# EAGLE library part LT5560_MIXER (library Tristan_Robitaille's_Library)
LT5560 0.01MHz to 4GHz Low Power Active Mixer Technical Specifications: Supply voltage range: 2.7V to 5V Noise: 9.3dB @ 900MHz output Conversion gain: 2.4dB Supply current: 4mA to 13.4mA (adjustable) Up/down conversion Operating temperature range: –40°C to 85°C Datasheet <http://cds.linear.com/docs/en/datasheet/5560f.pdf> Digi-Key part #: LT5560EDD#PBF-ND <http://www.digikey.com/product-detail/en/linear-technology/LT5560EDD-PBF/LT5560EDD-PBF-ND/1620364> Manufacturer part #: LT5560EDD#PBF
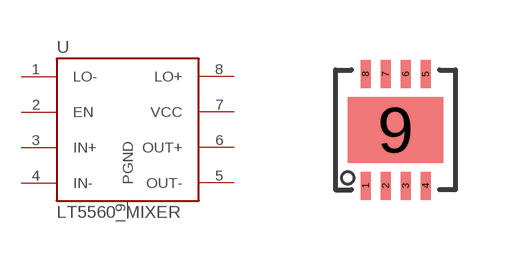
[diagram p11: symbol with the pads of 8-LEAD_DFN_(3MMX3MM); footprint 8-LEAD_DFN_(3MMX3MM)]

Designator prefix U

## LT5560_MIXER (DIGIKEY#: LT5560EDD#PBF-ND; MANF: LT5560 Low Power Active Mixer; MANF#: LT5560EDD#PBF)  [8-LEAD_DFN_(3MMX3MM)]
1  LO-  in
2  EN
3  IN+  in
4  IN-  in
5  OUT-  out
6  OUT+  out
7  VCC  pwr
8  LO+  in
9  PGND  pwr

## Footprint 8-LEAD_DFN_(3MMX3MM) (pad centres in mm)
smd 0.25 x 0.7: 1 -0.75,-1.4; 2 -0.25,-1.4; 3 0.25,-1.4; 4 0.75,-1.4; 5 0.75,1.4; 6 0.25,1.4; 7 -0.25,1.4; 8 -0.75,1.4
smd 2.38 x 1.65: 9 0,0